# Altium integrated library Connectors.IntLib: 3 symbols
Pins are listed as number, name and electrical type; pins without a type are passive.

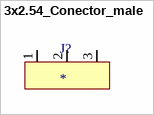
[diagram p0: symbol 3x2.54_Conector_male]

## 3x2.54_Conector_male
designator J?
footprint 3x2.54_Connector_male
pins: 1, 2, 3


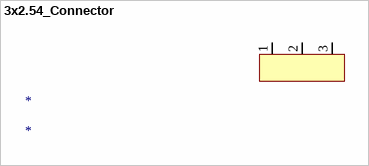
[diagram p1: symbol 3x2.54_Connector]

## 3x2.54_Connector
designator *
footprint 2.54_Connector_x3_female
pins: 1, 2, 3


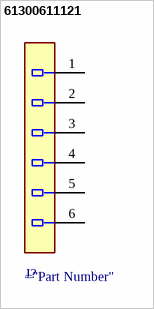
[diagram p2: symbol 61300611121]

## 61300611121
designator J?  (value not drawn)
footprint Wurth_61300611121_0
pins: 1, 2, 3, 4, 5, 6